# Altium schematic symbol library RC0201FR-07909KL.SchLib: 1 symbol
Pins are listed as number, name and electrical type; pins without a type are passive.

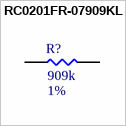
[diagram p0: symbol RC0201FR-07909KL]

## RC0201FR-07909KL
designator R?  Resistance: 909k  Tolerance: 1%  (hidden comment: RC0201FR-07909KL)
Thick Film Resistors - SMD 909 kOhms 50 mW 0201 1%; MFR: Yageo; Power Rating: 1/20W; PN: RC0201FR-07909KL; Footprint: RES0201; Package: 0201; ComponentLink1Description: Datasheet; ComponentLink1URL: https://www.mouser.com/datasheet/2/447/PYu_RC_Group_51_RoHS_L_10-1664068.pdf; Supplier 1: Mouser; Supplier Part Number 1: 603-RC0201FR-07909KL
footprint RES0201 (A generic 0201 footprint)
pins: 1, 2